# Altium integrated library Infineon_Power_MOSFET.IntLib: 1448 symbols (part 6 of 47)
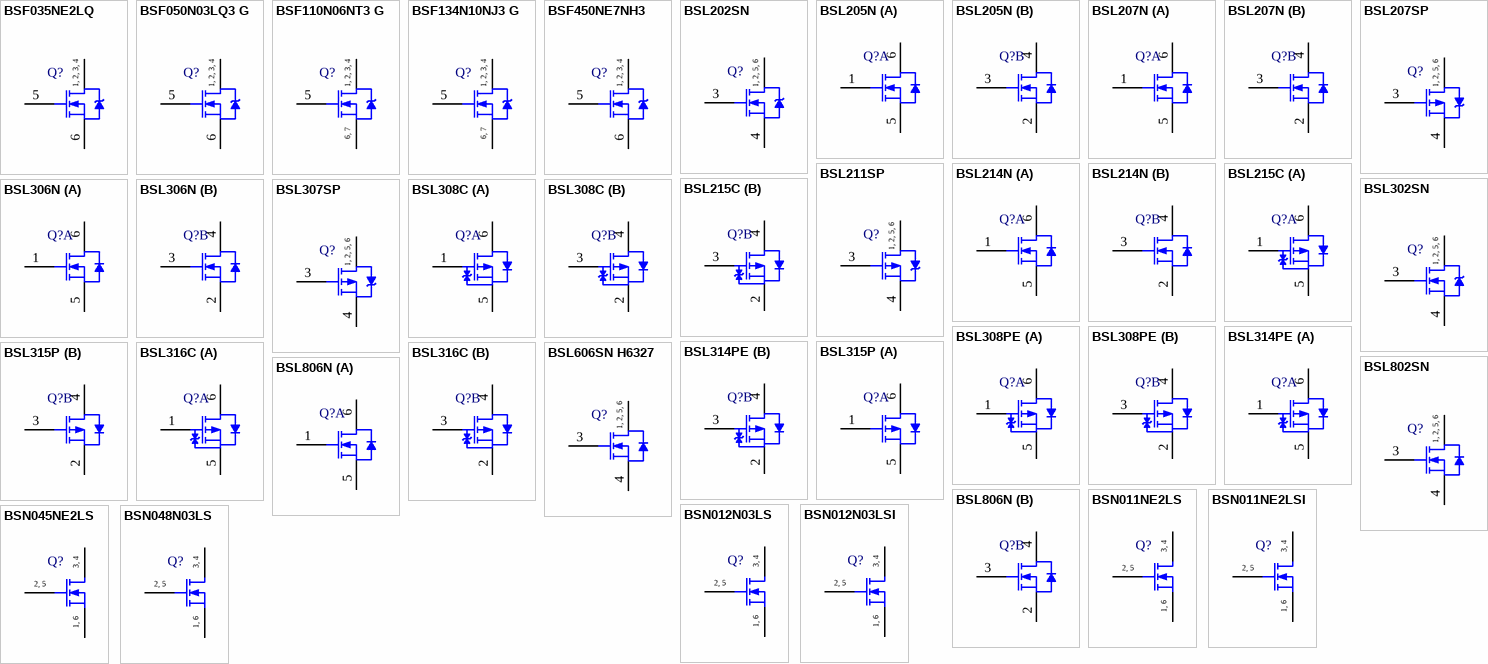
[diagram p42: symbols BSF035NE2LQ to BSN048N03LS]

## BSF450NE7NH3
designator Q?
N-Channel OptiMOS 3 Power-MOSFET, 75 V VDS, 15 A ID, -40 to 150 degC, MG-WDSON-2-1, Reel, Green; Manufacturer: Infineon; PartNumber: BSF450NE7NH3; Green: TRUE; ID (max): 15 A; IDpuls (max): 60 A; Polarity: N; Ptot (max): 18 W; QG: 6 nC; RDS (on) (max): 45 mOhm; Rth: 7 K/W; RthJA (max): 58 K/W; VDS (max): 75 V; VGS(th) (max): 3.5 V; VGS(th) (min): 2.3 V; DatasheetVersion: Rev. 2.0; PackageVersion: Rev. 02, 05/2009; PackageReference: MG-WDSON-2-1; PackageDescription: 6-Pin Metal Green Very Very Thin Profile Dual Small Outline Non-Leaded Package; Halogen-free: TRUE; Packing: Reel; RthJC (max): 7 K/W; Mounting Technology: Surface Mount; ComponentLink1Description: Manufacturer URL; ComponentLink1URL: http://www.infineon.com/; ComponentLink2Description: Datasheet; ComponentLink2URL: http://www.infineon.com/dgdl/BSF450NE7NH3G_rev2.pdf?folderId=db3a304313b8b5a60113cee8763b02d7&fileId=db3a30433a047ba0013a687e2ae403da; ComponentLink3Description: Package Specification; ComponentLink3URL: http://www.infineon.com/dgdl/BSF450NE7NH3G_rev2.0.pdf?folderId=db3a304313b8b5a60113cee8763b02d7&fileId=db3a30433a047ba0013a687e2ae403da
footprint INF-MG-WDSON-2-1_V (WDSON, 6-Leads, Body 4.015x3.825mm)
pins: 1 DRAIN, 2 DRAIN, 3 DRAIN, 4 DRAIN, 5 GATE, 6 SOURCE
text: 1, 2, 3, 4

## BSL202SN
designator Q?
N-Channel OptiMOS 2 Small-Signal-Transistor, 20 V VDS, 7.5 A ID, -55 to 150 degC, PG-TSOP-6, Reel, Green; Manufacturer: Infineon; PartNumber: BSL202SN; Green: TRUE; ID (max): 7.5 A; IDpuls (max): 30 A; Ptot (max): 2 W; QG: 5.8 nC; RDS (on) (max): 36 mOhm; RDS (on) (max) (@4.5V): 22 mOhm; VDS (max): 20 V; VGS(th) (max): 1.2 V; VGS(th) (min): 0.7 V; DatasheetVersion: Rev. 1.08; PackageReference: PG-TSOP-6; PackageDescription: 6-Pin Thin Small Outline Package, 2.9 x 1.6 mm Body, 0.95 mm Pitch; Supplier 1: Mouser; Supplier Part Number 1: N/A; Packing: Reel; RDS (on) (max) (@2.5V): 36 mOhm; Mounting Technology: Surface Mount; ComponentLink1Description: Manufacturer URL; ComponentLink1URL: http://www.infineon.com/; ComponentLink2Description: Datasheet; ComponentLink2URL: http://www.infineon.com/dgdl/BSL202SN_Rev1.08.pdf?folderId=db3a3043156fd573011622e10b5c1f67&fileId=db3a3043156fd573011622e191d41f68; ComponentLink3Description: Package Specification; ComponentLink3URL: http://www.infineon.com/cms/packages/SMD_-_Surface_Mounted_Devices/TSOP/TSOP6.html?__locale=en
footprint INF-PG-TSOP-6_N (SOP, 6-Leads, Body 2.9x1.6mm, Pitch 0.95mm, IPC Medium Density)
footprint INF-PG-TSOP-6_L (SOP, 6-Leads, Body 2.9x1.6mm, Pitch 0.95mm, IPC High Density)
footprint INF-PG-TSOP-6_M (SOP, 6-Leads, Body 2.9x1.6mm, Pitch 0.95mm, IPC Low Density)
pins: 1 DRAIN, 2 DRAIN, 3 GATE, 4 SOURCE, 5 DRAIN, 6 DRAIN
text: 1, 2, 5, 6

## BSL205N
designator Q?
N-Channel OptiMOS 2 Small-Signal-Transistor, 20 V VDS, 2.5 A ID, -55 to 150 degC, PG-TSOP-6, Reel, Green; Manufacturer: Infineon; PartNumber: BSL205N; Green: TRUE; ID (max): 2.5 A; IDpuls (max): 10 A; Ptot (max): 0.5 W; QG: 2.1 nC; RDS (on) (max): 85 mOhm; RDS (on) (max) (@4.5V): 50 mOhm; Rth: 250 K/W; VDS (max): 20 V; VGS(th) (max): 1.2 V; VGS(th) (min): 0.6 V; DatasheetVersion: Rev. 2.2; PackageReference: PG-TSOP-6; PackageDescription: 6-Pin Thin Small Outline Package, 2.9 x 1.6 mm Body, 0.95 mm Pitch; Packing: Reel; RDS (on) (max) (@2.5V): 85 mOhm; RthJA (max): 250 K/W; Mounting Technology: Surface Mount; ComponentLink1Description: Manufacturer URL; ComponentLink1URL: http://www.infineon.com/; ComponentLink2Description: Datasheet; ComponentLink2URL: http://www.infineon.com/dgdl/BSL205N_Rev2.2.pdf?folderId=db3a3043163797a6011637c252b10018&fileId=db3a30431add1d95011aedf84c5d0344; ComponentLink3Description: Package Specification; ComponentLink3URL: http://www.infineon.com/cms/packages/SMD_-_Surface_Mounted_Devices/TSOP/TSOP6.html?__locale=en
footprint INF-PG-TSOP-6_N (SOP, 6-Leads, Body 2.9x1.6mm, Pitch 0.95mm, IPC Medium Density)
footprint INF-PG-TSOP-6_L (SOP, 6-Leads, Body 2.9x1.6mm, Pitch 0.95mm, IPC High Density)
footprint INF-PG-TSOP-6_M (SOP, 6-Leads, Body 2.9x1.6mm, Pitch 0.95mm, IPC Low Density)
part A pins: 1 GATE, 5 SOURCE, 6 DRAIN
part B pins: 2 SOURCE, 3 GATE, 4 DRAIN

## BSL207N
designator Q?
N-Channel OptiMOS 2 Small-Signal-Transistor, 20 V VDS, 2.1 A ID, -55 to 150 degC, PG-TSOP-6, Reel, Green; Manufacturer: Infineon; PartNumber: BSL207N; Green: TRUE; ID (max): 2.1 A; IDpuls (max): 8.4 A; Ptot (max): 0.5 W; QG: 2.1 nC; RDS (on) (max): 110 mOhm; RDS (on) (max) (@4.5V): 70 mOhm; RthJA (max): 250 K/W; VDS (max): 20 V; VGS(th) (max): 1.2 V; VGS(th) (min): 0.7 V; DatasheetVersion: Rev. 2.2; PackageReference: PG-TSOP-6; PackageDescription: 6-Pin Thin Small Outline Package, 2.9 x 1.6 mm Body, 0.95 mm Pitch; Packing: Reel; RDS (on) (max) (@2.5V): 110 mOhm; Mounting Technology: Surface Mount; ComponentLink1Description: Manufacturer URL; ComponentLink1URL: http://www.infineon.com/; ComponentLink2Description: Datasheet; ComponentLink2URL: http://www.infineon.com/dgdl/BSL207N_Rev2.2.pdf?folderId=db3a3043156fd573011622e10b5c1f67&fileId=db3a30431add1d95011aee15c15b0376; ComponentLink3Description: Package Specification; ComponentLink3URL: http://www.infineon.com/cms/packages/SMD_-_Surface_Mounted_Devices/TSOP/TSOP6.html?__locale=en
footprint INF-PG-TSOP-6_N (SOP, 6-Leads, Body 2.9x1.6mm, Pitch 0.95mm, IPC Medium Density)
footprint INF-PG-TSOP-6_L (SOP, 6-Leads, Body 2.9x1.6mm, Pitch 0.95mm, IPC High Density)
footprint INF-PG-TSOP-6_M (SOP, 6-Leads, Body 2.9x1.6mm, Pitch 0.95mm, IPC Low Density)
part A pins: 1 GATE, 5 SOURCE, 6 DRAIN
part B pins: 2 SOURCE, 3 GATE, 4 DRAIN

## BSL207SP
designator Q?
OptiMOS-P Small-Signal-Transistor, -20 V VDS, -6 A ID, P-TSOP6-6, Reel, Green; Manufacturer: Infineon; PartNumber: BSL207SP; Green: TRUE; ID (max): -6 A; Polarity: P; VDS (max): -20 V; DatasheetVersion: Rev. 2.04; PackageReference: P-TSOP6-6; PackageDescription: 6-Pin Thin Small Outline Package, 2.9 x 1.6 mm Body, 0.95 mm Pitch; Supplier 1: Mouser; Supplier Part Number 1: N/A; Supplier 2: Digi-Key; Supplier Part Number 2: BSL207SPINTR-ND; Supplier 3: Digi-Key; Supplier Part Number 3: BSL207SPINCT-ND; Halogen-free: FALSE; Packing: Reel; Mounting Technology: Surface Mount; ComponentLink1Description: Manufacturer URL; ComponentLink1URL: http://www.infineon.com/; ComponentLink2Description: Datasheet; ComponentLink2URL: http://www.infineon.com/dgdl/BSL207SP_Rev24.pdf?folderId=db3a304412b407950112b408e8c90004&fileId=db3a304412b407950112b42af4ec442f; ComponentLink3Description: Package Specification; ComponentLink3URL: http://www.infineon.com/cms/packages/SMD_-_Surface_Mounted_Devices/TSOP/TSOP6.html?__locale=en
footprint INF-P-TSOP6-6_N (SOP, 6-Leads, Body 2.9x1.6mm, Pitch 0.95mm, IPC Medium Density)
footprint INF-P-TSOP6-6_L (SOP, 6-Leads, Body 2.9x1.6mm, Pitch 0.95mm, IPC High Density)
footprint INF-P-TSOP6-6_M (SOP, 6-Leads, Body 2.9x1.6mm, Pitch 0.95mm, IPC Low Density)
pins: 1 DRAIN, 2 DRAIN, 3 GATE, 4 SOURCE, 5 DRAIN, 6 DRAIN
text: 1, 2, 5, 6

## BSL211SP
designator Q?
OptiMOS-P Small-Signal-Transistor, -20 V VDS, -4.7 A ID, P-TSOP6-6, Reel, Green; Manufacturer: Infineon; PartNumber: BSL211SP; Green: TRUE; ID (max): -4.7 A; Polarity: P; VDS (max): -20 V; DatasheetVersion: Rev. 1.3; PackageReference: P-TSOP6-6; PackageDescription: 6-Pin Thin Small Outline Package, 2.9 x 1.6 mm Body, 0.95 mm Pitch; Supplier 1: Mouser; Supplier Part Number 1: 726-BSL211SP; Supplier 2: Digi-Key; Supplier Part Number 2: BSL211SPINTR-ND; Supplier 3: Digi-Key; Supplier Part Number 3: BSL211SPINCT-ND; Halogen-free: FALSE; Packing: Reel; Mounting Technology: Surface Mount; ComponentLink1Description: Manufacturer URL; ComponentLink1URL: http://www.infineon.com/; ComponentLink2Description: Datasheet; ComponentLink2URL: http://www.infineon.com/dgdl/BSL211SP_Rev1.3.pdf?folderId=db3a304412b407950112b408e8c90004&fileId=db3a304412b407950112b42af1e2442b; ComponentLink3Description: Package Specification; ComponentLink3URL: http://www.infineon.com/cms/packages/SMD_-_Surface_Mounted_Devices/TSOP/TSOP6.html?__locale=en
footprint INF-P-TSOP6-6_N (SOP, 6-Leads, Body 2.9x1.6mm, Pitch 0.95mm, IPC Medium Density)
footprint INF-P-TSOP6-6_L (SOP, 6-Leads, Body 2.9x1.6mm, Pitch 0.95mm, IPC High Density)
footprint INF-P-TSOP6-6_M (SOP, 6-Leads, Body 2.9x1.6mm, Pitch 0.95mm, IPC Low Density)
pins: 1 DRAIN, 2 DRAIN, 3 GATE, 4 SOURCE, 5 DRAIN, 6 DRAIN
text: 1, 2, 5, 6

## BSL214N
designator Q?
N-Channel OptiMOS 2 Small-Signal-Transistor, 20 V VDS, 1.5 A ID, -55 to 150 degC, PG-TSOP-6, Reel, Green; Manufacturer: Infineon; PartNumber: BSL214N; Green: TRUE; ID (max): 1.5 A; IDpuls (max): 6 A; Ptot (max): 0.5 W; QG: 0.8 nC; RDS (on) (max): 250 mOhm; RDS (on) (max) (@4.5V): 140 mOhm; RthJA (max): 250 K/W; VDS (max): 20 V; VGS(th) (max): 1.2 V; VGS(th) (min): 0.7 V; DatasheetVersion: Rev. 2.2; PackageReference: PG-TSOP-6; PackageDescription: 6-Pin Thin Small Outline Package, 2.9 x 1.6 mm Body, 0.95 mm Pitch; Packing: Reel; RDS (on) (max) (@2.5V): 250 mOhm; Mounting Technology: Surface Mount; ComponentLink1Description: Manufacturer URL; ComponentLink1URL: http://www.infineon.com/; ComponentLink2Description: Datasheet; ComponentLink2URL: http://www.infineon.com/dgdl/BSL214N_Rev2.2.pdf?folderId=db3a3043156fd573011622e10b5c1f67&fileId=db3a30431add1d95011afc5baa4504c2; ComponentLink3Description: Package Specification; ComponentLink3URL: http://www.infineon.com/cms/packages/SMD_-_Surface_Mounted_Devices/TSOP/TSOP6.html?__locale=en
footprint INF-PG-TSOP-6_N (SOP, 6-Leads, Body 2.9x1.6mm, Pitch 0.95mm, IPC Medium Density)
footprint INF-PG-TSOP-6_L (SOP, 6-Leads, Body 2.9x1.6mm, Pitch 0.95mm, IPC High Density)
footprint INF-PG-TSOP-6_M (SOP, 6-Leads, Body 2.9x1.6mm, Pitch 0.95mm, IPC Low Density)
part A pins: 1 GATE, 5 SOURCE, 6 DRAIN
part B pins: 2 SOURCE, 3 GATE, 4 DRAIN

## BSL215C
designator Q?
OptiMOS 2 + OptiMOS P2 Small-Signal-Transistor, 20 V, -20V VDS, 1.5 A, -1.5 A ID, -55 to 150 degC, PG-TSOP-6, Reel, Green; Manufacturer: Infineon; PartNumber: BSL215C; Green: TRUE; ID (max): 1.5 A -1.5 A; IDpuls (max): 6 A -6 A; Mode: Enhancement; Ptot< (max): 0.5 W 0.5 W; QG: 0.73 nC -3 nC; RDS (on) (max) (@2.5V): 250 mOhm 280 mOhm; RDS (on) (max) (@4.5V): 140 mOhm 150 mOhm; VDS (max): 20 V -20V; VGS(th) (max): 1.2 V -0.6 V; VGS(th) (min): 0.7 V -1.2 V; DatasheetVersion: Rev. 2.1; PackageReference: PG-TSOP-6; PackageDescription: 6-Pin Thin Small Outline Package, 2.9 x 1.6 mm Body, 0.95 mm Pitch; Packing: Reel; RDS (on)< (max): 250 mOhm 280 mOhm; Technology: OptiMOS-2; Mounting Technology: Surface Mount; ComponentLink1Description: Manufacturer URL; ComponentLink1URL: http://www.infineon.com/; ComponentLink2Description: Datasheet; ComponentLink2URL: http://www.infineon.com/dgdl/BSL215C_rev2.1.pdf?folderId=db3a30431add1d95011aed428f2d0285&fileId=db3a30431add1d95011aed4394210289; ComponentLink3Description: Package Specification; ComponentLink3URL: http://www.infineon.com/cms/packages/SMD_-_Surface_Mounted_Devices/TSOP/TSOP6.html?__locale=en
footprint INF-PG-TSOP-6_N (SOP, 6-Leads, Body 2.9x1.6mm, Pitch 0.95mm, IPC Medium Density)
footprint INF-PG-TSOP-6_L (SOP, 6-Leads, Body 2.9x1.6mm, Pitch 0.95mm, IPC High Density)
footprint INF-PG-TSOP-6_M (SOP, 6-Leads, Body 2.9x1.6mm, Pitch 0.95mm, IPC Low Density)
part A pins: 1 GATE, 5 SOURCE, 6 DRAIN
part B pins: 2 SOURCE, 3 GATE, 4 DRAIN

## BSL302SN
designator Q?
N-Channel OptiMOS 2 Small-Signal-Transistor, 30 V VDS, 7.1 A ID, -55 to 150 degC, PG-TSOP-6, Reel, Green; Manufacturer: Infineon; PartNumber: BSL302SN; Green: TRUE; ID (max): 7.1 A; IDpuls (max): 28 A; Ptot (max): 2 W; QG: 4.4 nC; RDS (on) (max): 25 mOhm; RDS (on) (max) (@4.5V): 38 mOhm; VDS (max): 30 V; VGS(th) (max): 2 V; VGS(th) (min): 1.2 V; DatasheetVersion: Rev. 1.07; PackageReference: PG-TSOP-6; PackageDescription: 6-Pin Thin Small Outline Package, 2.9 x 1.6 mm Body, 0.95 mm Pitch; Supplier 1: Mouser; Supplier Part Number 1: N/A; Packing: Reel; Mounting Technology: Surface Mount; ComponentLink1Description: Manufacturer URL; ComponentLink1URL: http://www.infineon.com/; ComponentLink2Description: Datasheet; ComponentLink2URL: http://www.infineon.com/dgdl/BSL302SN_Rev1.07.pdf?folderId=db3a3043156fd573011622e10b5c1f67&fileId=db3a3043156fd573011622e9b2061f88; ComponentLink3Description: Package Specification; ComponentLink3URL: http://www.infineon.com/cms/packages/SMD_-_Surface_Mounted_Devices/TSOP/TSOP6.html?__locale=en
footprint INF-PG-TSOP-6_N (SOP, 6-Leads, Body 2.9x1.6mm, Pitch 0.95mm, IPC Medium Density)
footprint INF-PG-TSOP-6_L (SOP, 6-Leads, Body 2.9x1.6mm, Pitch 0.95mm, IPC High Density)
footprint INF-PG-TSOP-6_M (SOP, 6-Leads, Body 2.9x1.6mm, Pitch 0.95mm, IPC Low Density)
pins: 1 DRAIN, 2 DRAIN, 3 GATE, 4 SOURCE, 5 DRAIN, 6 DRAIN
text: 1, 2, 5, 6

## BSL306N
designator Q?
N-Channel OptiMOS 2 Small-Signal-Transistor, 30 V VDS, 2.3 A ID, -55 to 150 degC, PG-TSOP-6, Reel, Green; Manufacturer: Infineon; PartNumber: BSL306N; Green: TRUE; ID (max): 2.3 A; IDpuls (max): 9 A; Ptot (max): 0.5 W; QG: 1.6 nC; RDS (on) (max): 57 mOhm; RDS (on) (max) (@4.5V): 93 mOhm; RthJA (max): 250 K/W; VDS (max): 30 V; VGS(th) (max): 2 V; VGS(th) (min): 1.2 V; DatasheetVersion: Rev. 2.3; PackageReference: PG-TSOP-6; PackageDescription: 6-Pin Thin Small Outline Package, 2.9 x 1.6 mm Body, 0.95 mm Pitch; Packing: Reel; Mounting Technology: Surface Mount; ComponentLink1Description: Manufacturer URL; ComponentLink1URL: http://www.infineon.com/; ComponentLink2Description: Datasheet; ComponentLink2URL: http://www.infineon.com/dgdl/BSL306N_Rev2.3.pdf?folderId=db3a3043156fd573011622e10b5c1f67&fileId=db3a30431add1d95011afc80323d04f0; ComponentLink3Description: Package Specification; ComponentLink3URL: http://www.infineon.com/cms/packages/SMD_-_Surface_Mounted_Devices/TSOP/TSOP6.html?__locale=en
footprint INF-PG-TSOP-6_N (SOP, 6-Leads, Body 2.9x1.6mm, Pitch 0.95mm, IPC Medium Density)
footprint INF-PG-TSOP-6_L (SOP, 6-Leads, Body 2.9x1.6mm, Pitch 0.95mm, IPC High Density)
footprint INF-PG-TSOP-6_M (SOP, 6-Leads, Body 2.9x1.6mm, Pitch 0.95mm, IPC Low Density)
part A pins: 1 GATE, 5 SOURCE, 6 DRAIN
part B pins: 2 SOURCE, 3 GATE, 4 DRAIN

## BSL307SP
designator Q?
P-Channel OptiMOS P Small-Signal-Transistor, -30 V VDS, -5.5 A ID, -55 to 150 degC, PG-TSOP-6, Reel, Green; Manufacturer: Infineon; PartNumber: BSL307SP; Green: TRUE; ID (max): -5.5 A; IDpuls (max): -22 A; Pto t (max): 2 W; QG: -23.4 nC; RDS (on) (max): 43 mOhm; RDS (on) (max) (@4.5V): 74 mOhm; Rth: 230 K/W; VDS (max): -30 V; VGS(th) (max): -2 V; VGS(th) (min): -1 V; DatasheetVersion: Rev. 1.5; PackageReference: PG-TSOP-6; PackageDescription: 6-Pin Thin Small Outline Package, 2.9 x 1.6 mm Body, 0.95 mm Pitch; Supplier 1: Mouser; Supplier Part Number 1: N/A; Supplier 2: Digi-Key; Supplier Part Number 2: BSL307SPINTR-ND; Packing: Reel; Polarity: P; Mounting Technology: Surface Mount; ComponentLink1Description: Manufacturer URL; ComponentLink1URL: http://www.infineon.com/; ComponentLink2Description: Datasheet; ComponentLink2URL: http://www.infineon.com/dgdl/BSL307SP_Rev+1.5.pdf?folderId=db3a304412b407950112b408e8c90004&fileId=db3a304412b407950112b42af8304433; ComponentLink3Description: Package Specification; ComponentLink3URL: http://www.infineon.com/cms/packages/SMD_-_Surface_Mounted_Devices/TSOP/TSOP6.html?__locale=en
footprint INF-PG-TSOP-6_N (SOP, 6-Leads, Body 2.9x1.6mm, Pitch 0.95mm, IPC Medium Density)
footprint INF-PG-TSOP-6_L (SOP, 6-Leads, Body 2.9x1.6mm, Pitch 0.95mm, IPC High Density)
footprint INF-PG-TSOP-6_M (SOP, 6-Leads, Body 2.9x1.6mm, Pitch 0.95mm, IPC Low Density)
pins: 1 DRAIN, 2 DRAIN, 3 GATE, 4 SOURCE, 5 DRAIN, 6 DRAIN
text: 1, 2, 5, 6

## BSL308C
designator Q?
OptiMOS 3 + OptiMOS 2 Small-Signal-Transistor, -30 V VDS, 2.3 A, -2.0 A ID, -55 to 150 degC, PG-TSOP-6, Reel, Green; Manufacturer: Infineon; PartNumber: BSL308C; Green: TRUE; ID (max): 2.3 A -2.0 A; IDpuls (max): 9 A -8 A; Mode: Enhancement; Ptot< (max): 0.5 W 0.5 W; QG: 1.5 nC -5 nC; RDS (on) (max) (@4.5V): 93 mOhm 130 mOhm; RDS (on)< (max): 57 mOhm 80 mOhm; VDS (max): 30 V -30 V; VGS(th) (max): 2 V -1 V; VGS(th) (min): 1.2 V -2 V; DatasheetVersion: Rev. 2.0; PackageReference: PG-TSOP-6; PackageDescription: 6-Pin Thin Small Outline Package, 2.9 x 1.6 mm Body, 0.95 mm Pitch; Packing: Reel; Technology: OptiMOS-2; Mounting Technology: Surface Mount; ComponentLink1Description: Manufacturer URL; ComponentLink1URL: http://www.infineon.com/; ComponentLink2Description: Datasheet; ComponentLink2URL: http://www.infineon.com/dgdl/BSL308C_Rev+2+0.pdf?folderId=db3a30431add1d95011aed428f2d0285&fileId=db3a30431ff98815012060ff862e6193; ComponentLink3Description: Package Specification; ComponentLink3URL: http://www.infineon.com/cms/packages/SMD_-_Surface_Mounted_Devices/TSOP/TSOP6.html?__locale=en
footprint INF-PG-TSOP-6_N (SOP, 6-Leads, Body 2.9x1.6mm, Pitch 0.95mm, IPC Medium Density)
footprint INF-PG-TSOP-6_L (SOP, 6-Leads, Body 2.9x1.6mm, Pitch 0.95mm, IPC High Density)
footprint INF-PG-TSOP-6_M (SOP, 6-Leads, Body 2.9x1.6mm, Pitch 0.95mm, IPC Low Density)
part A pins: 1 GATE, 5 SOURCE, 6 DRAIN
part B pins: 2 SOURCE, 3 GATE, 4 DRAIN

## BSL308PE
designator Q?
P-Channel OptiMOS P3 Small-Signal-Transistor, -30 V VDS, -2 A ID, -55 to 150 degC, PG-TSOP-6, Reel, Green; Manufacturer: Infineon; PartNumber: BSL308PE; Green: TRUE; ID (max): -2 A; IDpuls (max): -8 A; Pto t (max): 0.5 W; QG: -5 nC; RDS (on) (max): 80 mOhm; RDS (on) (max) (@4.5V): 130 mOhm; Rth: 250 K/W; VDS (max): -30 V; VGS(th) (max): -1 V; VGS(th) (min): -2 V; DatasheetVersion: Rev. 2.02; PackageReference: PG-TSOP-6; PackageDescription: 6-Pin Thin Small Outline Package, 2.9 x 1.6 mm Body, 0.95 mm Pitch; Packing: Reel; Mounting Technology: Surface Mount; ComponentLink1Description: Manufacturer URL; ComponentLink1URL: http://www.infineon.com/; ComponentLink2Description: Datasheet; ComponentLink2URL: http://www.infineon.com/dgdl/BSL308PE_Rev22.pdf?folderId=db3a304314dca38901154a72e3951a65&fileId=db3a30431d8a6b3c011d8ff3592c03d0; ComponentLink3Description: Package Specification; ComponentLink3URL: http://www.infineon.com/cms/packages/SMD_-_Surface_Mounted_Devices/TSOP/TSOP6.html?__locale=en
footprint INF-PG-TSOP-6_N (SOP, 6-Leads, Body 2.9x1.6mm, Pitch 0.95mm, IPC Medium Density)
footprint INF-PG-TSOP-6_L (SOP, 6-Leads, Body 2.9x1.6mm, Pitch 0.95mm, IPC High Density)
footprint INF-PG-TSOP-6_M (SOP, 6-Leads, Body 2.9x1.6mm, Pitch 0.95mm, IPC Low Density)
part A pins: 1 GATE, 5 SOURCE, 6 DRAIN
part B pins: 2 SOURCE, 3 GATE, 4 DRAIN

## BSL314PE
designator Q?
P-Channel OptiMOS P3 Small-Signal-Transistor, -30 V VDS, -1.5 A ID, -55 to 150 degC, PG-TSOP-6, Reel, Green; Manufacturer: Infineon; PartNumber: BSL314PE; Green: TRUE; ID (max): -1.5 A; IDpuls (max): -6.1 A; Pto t (max): 0.5 W; QG: -2.9 nC; RDS (on) (max): 140 mOhm; RDS (on) (max) (@4.5V): 230 mOhm; Rth: 250 K/W; VDS (max): -30 V; VGS(th) (max): -2 V; VGS(th) (min): -1 V; DatasheetVersion: Rev 2.2; PackageReference: PG-TSOP-6; PackageDescription: 6-Pin Thin Small Outline Package, 2.9 x 1.6 mm Body, 0.95 mm Pitch; Packing: Reel; Mounting Technology: Surface Mount; ComponentLink1Description: Manufacturer URL; ComponentLink1URL: http://www.infineon.com/; ComponentLink2Description: Datasheet; ComponentLink2URL: http://www.infineon.com/dgdl/BSL314PE_rev2+2.pdf?folderId=db3a304314dca38901154a72e3951a65&fileId=db3a30431ff98815012066194be96c60; ComponentLink3Description: Package Specification; ComponentLink3URL: http://www.infineon.com/cms/packages/SMD_-_Surface_Mounted_Devices/TSOP/TSOP6.html?__locale=en
footprint INF-PG-TSOP-6_N (SOP, 6-Leads, Body 2.9x1.6mm, Pitch 0.95mm, IPC Medium Density)
footprint INF-PG-TSOP-6_L (SOP, 6-Leads, Body 2.9x1.6mm, Pitch 0.95mm, IPC High Density)
footprint INF-PG-TSOP-6_M (SOP, 6-Leads, Body 2.9x1.6mm, Pitch 0.95mm, IPC Low Density)
part A pins: 1 GATE, 5 SOURCE, 6 DRAIN
part B pins: 2 SOURCE, 3 GATE, 4 DRAIN

## BSL315P
designator Q?
OptiMOS-P2 Small-Signal-Transistor, -30 V VDS, -1.5 A ID, PG-TSOP-6, Reel, Green; Manufacturer: Infineon; PartNumber: BSL315P; Green: TRUE; ID (max): -1.5 A; RDS (on) (max): 150 mOhm; VDS (max): -30 V; DatasheetVersion: Rev. 2.2; PackageReference: PG-TSOP-6; PackageDescription: 6-Pin Thin Small Outline Package, 2.9 x 1.6 mm Body, 0.95 mm Pitch; Halogen-free: FALSE; Packing: Reel; Mounting Technology: Surface Mount; ComponentLink1Description: Manufacturer URL; ComponentLink1URL: http://www.infineon.com/; ComponentLink2Description: Datasheet; ComponentLink2URL: http://www.infineon.com/dgdl/BSL315P_Rev2.2.pdf?folderId=db3a304314dca38901154a7313d21a66&fileId=db3a30431add1d95011aed26517e022d; ComponentLink3Description: Package Specification; ComponentLink3URL: http://www.infineon.com/cms/packages/SMD_-_Surface_Mounted_Devices/TSOP/TSOP6.html?__locale=en
footprint INF-PG-TSOP-6_N (SOP, 6-Leads, Body 2.9x1.6mm, Pitch 0.95mm, IPC Medium Density)
footprint INF-PG-TSOP-6_L (SOP, 6-Leads, Body 2.9x1.6mm, Pitch 0.95mm, IPC High Density)
footprint INF-PG-TSOP-6_M (SOP, 6-Leads, Body 2.9x1.6mm, Pitch 0.95mm, IPC Low Density)
part A pins: 1 G, 5 S, 6 D
part B pins: 2 S, 3 G, 4 D

## BSL316C
designator Q?
OptiMOS 2 + OptiMOS P2 Small-Signal-Transistor, 30 V, -30 V VDS, 1.4 A, -1.5 A ID, -55 to 150 degC, PG-TSOP-6, Reel, Green; Manufacturer: Infineon; PartNumber: BSL316C; Green: TRUE; ID (max): 1.4 A -1.5 A; IDpuls (max): 5.6 A -6 A; Mode: Enhancement; Ptot< (max): 0.5 W 0.5 W; QG: 0.6 nC -2.4 nC; RDS (on) (max) (@4.5V): 280 mOhm 270 mOhm; RDS (on)< (max): 160 mOhm 150 mOhm; VDS (max): 30 V -30 V; VGS(th) (max): 2 V -1 V; VGS(th) (min): 1.2 V -2 V; DatasheetVersion: Rev. 2.1; PackageReference: PG-TSOP-6; PackageDescription: 6-Pin Thin Small Outline Package, 2.9 x 1.6 mm Body, 0.95 mm Pitch; Packing: Reel; Technology: OptiMOS-2; Mounting Technology: Surface Mount; ComponentLink1Description: Manufacturer URL; ComponentLink1URL: http://www.infineon.com/; ComponentLink2Description: Datasheet; ComponentLink2URL: http://www.infineon.com/dgdl/BSL316C_rev2.1.pdf?folderId=db3a30431add1d95011aed428f2d0285&fileId=db3a30431add1d95011aed6aee7702ee; ComponentLink3Description: Package Specification; ComponentLink3URL: http://www.infineon.com/cms/packages/SMD_-_Surface_Mounted_Devices/TSOP/TSOP6.html?__locale=en
footprint INF-PG-TSOP-6_N (SOP, 6-Leads, Body 2.9x1.6mm, Pitch 0.95mm, IPC Medium Density)
footprint INF-PG-TSOP-6_L (SOP, 6-Leads, Body 2.9x1.6mm, Pitch 0.95mm, IPC High Density)
footprint INF-PG-TSOP-6_M (SOP, 6-Leads, Body 2.9x1.6mm, Pitch 0.95mm, IPC Low Density)
part A pins: 1 GATE, 5 SOURCE, 6 DRAIN
part B pins: 2 SOURCE, 3 GATE, 4 DRAIN

## BSL606SN H6327
designator Q?
N-Channel OptiMOS 3 Small-Signal-Transistor, 60 V VDS, 4.5 A ID, -55 to 150 degC, PG-TSOP-6, Reel, Green; Manufacturer: Infineon; PartNumber: BSL606SN H6327; Green: TRUE; ID (max): 4.5 A; IDpuls (max): 18.1 A; Mode: Enhancement; Polarity: N; Ptot (max): 2 W; QG: 4.1 nC; RDS (on) (max): 60 mOhm; RDS (on) (max) (@4.5V): 95 mOhm; Rth: 62.5 K/W; VDS (max): 60 V; VGS(th) (max): 2.3 V; VGS(th) (min): 1.3 V; DatasheetVersion: Rev. 2.0; PackageReference: PG-TSOP-6; PackageDescription: 6-Pin Thin Small Outline Package, 2.9 x 1.6 mm Body, 0.95 mm Pitch; Supplier 1: Mouser; Supplier Part Number 1: 726-BSL606SNH6327; Halogen-free: TRUE; Packing: Reel; RthJA (max): 62.5 K/W; Mounting Technology: Surface Mount; ComponentLink1Description: Manufacturer URL; ComponentLink1URL: http://www.infineon.com/; ComponentLink2Description: Datasheet; ComponentLink2URL: http://www.infineon.com/dgdl/BSL606SN_2.0.pdf?folderId=db3a3043156fd573011622e10b5c1f67&fileId=db3a30433c6c52e2013c6ca13340015f; ComponentLink3Description: Package Specification; ComponentLink3URL: http://www.infineon.com/cms/packages/SMD_-_Surface_Mounted_Devices/TSOP/TSOP6.html?__locale=en
footprint INF-PG-TSOP-6_N (SOP, 6-Leads, Body 2.9x1.6mm, Pitch 0.95mm, IPC Medium Density)
footprint INF-PG-TSOP-6_L (SOP, 6-Leads, Body 2.9x1.6mm, Pitch 0.95mm, IPC High Density)
footprint INF-PG-TSOP-6_M (SOP, 6-Leads, Body 2.9x1.6mm, Pitch 0.95mm, IPC Low Density)
pins: 1 DRAIN, 2 DRAIN, 3 GATE, 4 SOURCE, 5 DRAIN, 6 DRAIN
text: 1, 2, 5, 6

## BSL802SN
designator Q?
N-Channel OptiMOS 2 Small-Signal-Transistor, 20 V VDS, 7.5 A ID, -55 to 150 degC, PG-TSOP-6, Reel, Green; Manufacturer: Infineon; PartNumber: BSL802SN; Green: TRUE; ID (max): 7.5 A; IDpuls (max): 30 A; Ptot (max): 2 W; QG: 4.7 nC; RDS (on) (max): 22 mOhm; RDS (on) (max) (@1.8V): 31 mOhm; RthJA (max): 230 K/W; VDS (max): 20 V; VGS(th) (max): 0.75 V; VGS(th) (min): 0.3 V; DatasheetVersion: Rev. 2.2; PackageReference: PG-TSOP-6; PackageDescription: 6-Pin Thin Small Outline Package, 2.9 x 1.6 mm Body, 0.95 mm Pitch; Packing: Reel; RDS (on) (max) (@2.5V): 22 mOhm; Mounting Technology: Surface Mount; ComponentLink1Description: Manufacturer URL; ComponentLink1URL: http://www.infineon.com/; ComponentLink2Description: Datasheet; ComponentLink2URL: http://www.infineon.com/dgdl/BSL802SN_Rev2.2.pdf?folderId=db3a3043156fd573011622e10b5c1f67&fileId=db3a30431b0626df011b129ef9177bd1; ComponentLink3Description: Package Specification; ComponentLink3URL: http://www.infineon.com/cms/packages/SMD_-_Surface_Mounted_Devices/TSOP/TSOP6.html?__locale=en
footprint INF-PG-TSOP-6_N (SOP, 6-Leads, Body 2.9x1.6mm, Pitch 0.95mm, IPC Medium Density)
footprint INF-PG-TSOP-6_L (SOP, 6-Leads, Body 2.9x1.6mm, Pitch 0.95mm, IPC High Density)
footprint INF-PG-TSOP-6_M (SOP, 6-Leads, Body 2.9x1.6mm, Pitch 0.95mm, IPC Low Density)
pins: 1 DRAIN, 2 DRAIN, 3 GATE, 4 SOURCE, 5 DRAIN, 6 DRAIN
text: 1, 2, 5, 6

## BSL806N
designator Q?
N-Channel OptiMOS 2 Small-Signal-Transistor, 20 V VDS, 2.3 A ID, -55 to 150 degC, PG-TSOP-6, Reel, Green; Manufacturer: Infineon; PartNumber: BSL806N; Green: TRUE; ID (max): 2.3 A; IDpuls (max): 9.3 A; Ptot (max): 0.5 W; QG: 1.7 nC; RDS (on) (max): 57 mOhm; RDS (on) (max) (@1.8V): 82 mOhm; RthJA (max): 250 K/W; VDS (max): 20 V; VGS(th) (max): 0.75 V; VGS(th) (min): 0.3 V; PackageReference: PG-TSOP-6; PackageDescription: 6-Pin Thin Small Outline Package, 2.9 x 1.6 mm Body, 0.95 mm Pitch; Packing: Reel; RDS (on) (max) (@2.5V): 57 mOhm; Mounting Technology: Surface Mount; ComponentLink1Description: Manufacturer URL; ComponentLink1URL: http://www.infineon.com/; ComponentLink2Description: Datasheet; ComponentLink2URL: http://www.infineon.com/dgdl/BSL806N_Rev2.2.pdf?folderId=db3a3043156fd573011622e10b5c1f67&fileId=db3a30431b0626df011b128dcbe37bb1; ComponentLink3Description: Package Specification; ComponentLink3URL: http://www.infineon.com/cms/packages/SMD_-_Surface_Mounted_Devices/TSOP/TSOP6.html?__locale=en
footprint INF-PG-TSOP-6_N (SOP, 6-Leads, Body 2.9x1.6mm, Pitch 0.95mm, IPC Medium Density)
footprint INF-PG-TSOP-6_L (SOP, 6-Leads, Body 2.9x1.6mm, Pitch 0.95mm, IPC High Density)
footprint INF-PG-TSOP-6_M (SOP, 6-Leads, Body 2.9x1.6mm, Pitch 0.95mm, IPC Low Density)
part A pins: 1 GATE, 5 SOURCE, 6 DRAIN
part B pins: 2 SOURCE, 3 GATE, 4 DRAIN

## BSN011NE2LS
designator Q?
N-Channel OptiMOS Power-MOSFET, 25 V VDS, 50 A ID, -55 to 150 degC, LG-USON-6-1, Reel, Green; Manufacturer: Infineon; PartNumber: BSN011NE2LS; Green: TRUE; ID (max): 50 A; IDpuls (max): 200 A; Polarity: N; Ptot (max): 78 W; QG: 54 nC; RDS (on) (max): 1.1 mOhm; RDS (on) (max) (@4.5V): 1.5 mOhm; Rth: 1.6 K/W; RthJA (max): 50 K/W; VDS (max): 25 V; VGS(th) (max): 2 V; VGS(th) (min): 1.2 V; DatasheetVersion: Rev. 1.0; PackageVersion: Mar-13; PackageReference: LG-USON-6-1; PackageDescription: 6-Pin Plastic (Green) Ultra thin Small Outline Non-leaded Package, 3 x 3.4 mm Body; Supplier 1: Mouser; Supplier Part Number 1: N/A; Halogen-free: TRUE; Packing: Reel; RthJC (max): 1.6 K/W; Technology: OPTIMOS; Mounting Technology: Surface Mount; ComponentLink1Description: Manufacturer URL; ComponentLink1URL: http://www.infineon.com/; ComponentLink2Description: Datasheet; ComponentLink2URL: http://www.infineon.com/dgdl/BSN011NE2LS_rev1.pdf?folderId=db3a304313b8b5a60113cee8763b02d7&fileId=db3a30433d68e984013d7cbfeef05815; ComponentLink3Description: Package Specification; ComponentLink3URL: http://www.infineon.com/dgdl/BSN011NE2LSI_rev1.0.pdf?folderId=db3a304313b8b5a60113cee8763b02d7&fileId=db3a30433d68e984013d7ccf22ee58e4
footprint INF-LG-USON-6-1_V (USON, 6-Leads, Body 3.4x3mm)
pins: 1 SOURCE, 2 GATE, 3 DRAIN, 4 DRAIN, 5 GATE, 6 SOURCE
text: 3, 4; 2, 5; 1, 6

## BSN011NE2LSI
designator Q?
N-Channel OptiMOS Power-MOSFET, 25 V VDS, 50 A ID, -55 to 150 degC, LG-USON-6-1, Reel, Green; Manufacturer: Infineon; PartNumber: BSN011NE2LSI; Green: TRUE; ID (max): 50 A; IDpuls (max): 200 A; Polarity: N; Ptot (max): 78 W; QG: 49 nC; RDS (on) (max): 1.1 mOhm; RDS (on) (max) (@4.5V): 1.5 mOhm; Rth: 1.6 K/W; RthJA (max): 50 K/W; VDS (max): 25 V; VGS(th) (max): 2 V; VGS(th) (min): 1.2 V; DatasheetVersion: Rev. 1.0; PackageVersion: Mar-13; PackageReference: LG-USON-6-1; PackageDescription: 6-Pin Plastic (Green) Ultra thin Small Outline Non-leaded Package, 3 x 3.4 mm Body; Supplier 1: Mouser; Supplier Part Number 1: N/A; Halogen-free: TRUE; Packing: Reel; RthJC (max): 1.6 K/W; Technology: OPTIMOS; Mounting Technology: Surface Mount; ComponentLink1Description: Manufacturer URL; ComponentLink1URL: http://www.infineon.com/; ComponentLink2Description: Datasheet; ComponentLink2URL: http://www.infineon.com/dgdl/BSN011NE2LSI_rev1.pdf?folderId=db3a304313b8b5a60113cee8763b02d7&fileId=db3a30433d68e984013d7ccf22ee58e4; ComponentLink3Description: Package Specification; ComponentLink3URL: http://www.infineon.com/dgdl/BSN011NE2LSI_rev1.0.pdf?folderId=db3a304313b8b5a60113cee8763b02d7&fileId=db3a30433d68e984013d7ccf22ee58e4
footprint INF-LG-USON-6-1_V (USON, 6-Leads, Body 3.4x3mm)
pins: 1 SOURCE, 2 GATE, 3 DRAIN, 4 DRAIN, 5 GATE, 6 SOURCE
text: 3, 4; 2, 5; 1, 6

## BSN012N03LS
designator Q?
N-Channel OptiMOS Power-MOSFET, 30 V VDS, 50 A ID, -55 to 150 degC, LG-USON-6-1, Reel, Green; Manufacturer: Infineon; PartNumber: BSN012N03LS; Green: TRUE; ID (max): 50 A; IDpuls (max): 200 A; Polarity: N; Ptot (max): 78 W; QG: 61 nC; RDS (on) (max): 1.2 mOhm; RDS (on) (max) (@4.5V): 1.6 mOhm; Rth: 1.6 K/W; RthJA (max): 50 K/W; VDS (max): 30 V; VGS(th) (max): 2 V; VGS(th) (min): 1.2 V; DatasheetVersion: Rev. 1.0; PackageVersion: Mar-13; PackageReference: LG-USON-6-1; PackageDescription: 6-Pin Plastic (Green) Ultra thin Small Outline Non-leaded Package, 3 x 3.4 mm Body; Supplier 1: Mouser; Supplier Part Number 1: N/A; Halogen-free: TRUE; Packing: Reel; RthJC (max): 1.6 K/W; Technology: OPTIMOS; Mounting Technology: Surface Mount; ComponentLink1Description: Manufacturer URL; ComponentLink1URL: http://www.infineon.com/; ComponentLink2Description: Datasheet; ComponentLink2URL: http://www.infineon.com/dgdl/BSN012N03LS_rev1.pdf?folderId=db3a304313b8b5a60113cee8763b02d7&fileId=db3a30433d68e984013d7cde510c594c; ComponentLink3Description: Package Specification; ComponentLink3URL: http://www.infineon.com/dgdl/BSN011NE2LSI_rev1.0.pdf?folderId=db3a304313b8b5a60113cee8763b02d7&fileId=db3a30433d68e984013d7ccf22ee58e4
footprint INF-LG-USON-6-1_V (USON, 6-Leads, Body 3.4x3mm)
pins: 1 SOURCE, 2 GATE, 3 DRAIN, 4 DRAIN, 5 GATE, 6 SOURCE
text: 3, 4; 2, 5; 1, 6

## BSN012N03LSI
designator Q?
N-Channel OptiMOS Power-MOSFET, 30 V VDS, 50 A ID, -55 to 150 degC, LG-USON-6-1, Reel, Green; Manufacturer: Infineon; PartNumber: BSN012N03LSI; Green: TRUE; ID (max): 50 A; IDpuls (max): 200 A; Polarity: N; Ptot (max): 78 W; QG: 56 nC; RDS (on) (max): 1.2 mOhm; RDS (on) (max) (@4.5V): 1.6 mOhm; Rth: 1.6 K/W; RthJA (max): 50 K/W; VDS (max): 30 V; VGS(th) (max): 2 V; VGS(th) (min): 1.2 V; DatasheetVersion: Rev. 1.0; PackageVersion: Mar-13; PackageReference: LG-USON-6-1; PackageDescription: 6-Pin Plastic (Green) Ultra thin Small Outline Non-leaded Package, 3 x 3.4 mm Body; Supplier 1: Mouser; Supplier Part Number 1: N/A; Halogen-free: TRUE; Packing: Reel; RthJC (max): 1.6 K/W; Technology: OPTIMOS; Mounting Technology: Surface Mount; ComponentLink1Description: Manufacturer URL; ComponentLink1URL: http://www.infineon.com/; ComponentLink2Description: Datasheet; ComponentLink2URL: http://www.infineon.com/dgdl/BSN012N03LSI_rev1.pdf?folderId=db3a304313b8b5a60113cee8763b02d7&fileId=db3a30433d68e984013d7cea5f8559f4; ComponentLink3Description: Package Specification; ComponentLink3URL: http://www.infineon.com/dgdl/BSN011NE2LSI_rev1.0.pdf?folderId=db3a304313b8b5a60113cee8763b02d7&fileId=db3a30433d68e984013d7ccf22ee58e4
footprint INF-LG-USON-6-1_V (USON, 6-Leads, Body 3.4x3mm)
pins: 1 SOURCE, 2 GATE, 3 DRAIN, 4 DRAIN, 5 GATE, 6 SOURCE
text: 3, 4; 2, 5; 1, 6

## BSN045NE2LS
designator Q?
N-Channel OptiMOS Power-MOSFET, 25 V VDS, 50 A ID, -55 to 150 degC, LG-USON-6-1, Reel, Green; Manufacturer: Infineon; PartNumber: BSN045NE2LS; Green: TRUE; ID (max): 50 A; IDpuls (max): 200 A; Polarity: N; Ptot (max): 39 W; QG: 11 nC; RDS (on) (max): 4.5 mOhm; RDS (on) (max) (@4.5V): 6.5 mOhm; Rth: 3.2 K/W; RthJA (max): 50 K/W; VDS (max): 25 V; VGS(th) (max): 2 V; VGS(th) (min): 1.2 V; DatasheetVersion: Rev. 1.0; PackageVersion: Mar-13; PackageReference: LG-USON-6-1; PackageDescription: 6-Pin Plastic (Green) Ultra thin Small Outline Non-leaded Package, 3 x 3.4 mm Body; Supplier 1: Mouser; Supplier Part Number 1: N/A; Halogen-free: TRUE; Packing: Reel; RthJC (max): 3.2 K/W; Technology: OPTIMOS; Mounting Technology: Surface Mount; ComponentLink1Description: Manufacturer URL; ComponentLink1URL: http://www.infineon.com/; ComponentLink2Description: Datasheet; ComponentLink2URL: http://www.infineon.com/dgdl/BSN045NE2LS_rev1.pdf?folderId=db3a304313b8b5a60113cee8763b02d7&fileId=db3a30433d68e984013d7ca959855780; ComponentLink3Description: Package Specification; ComponentLink3URL: http://www.infineon.com/dgdl/BSN011NE2LSI_rev1.0.pdf?folderId=db3a304313b8b5a60113cee8763b02d7&fileId=db3a30433d68e984013d7ccf22ee58e4
footprint INF-LG-USON-6-1_V (USON, 6-Leads, Body 3.4x3mm)
pins: 1 SOURCE, 2 GATE, 3 DRAIN, 4 DRAIN, 5 GATE, 6 SOURCE
text: 3, 4; 2, 5; 1, 6

## BSN048N03LS
designator Q?
N-Channel OptiMOS Power-MOSFET, 30 V VDS, 50 A ID, -55 to 150 degC, LG-USON-6-1, Reel, Green; Manufacturer: Infineon; PartNumber: BSN048N03LS; Green: TRUE; ID (max): 50 A; IDpuls (max): 200 A; Polarity: N; Ptot (max): 39 W; QG: 12 nC; RDS (on) (max): 4.8 mOhm; RDS (on) (max) (@4.5V): 6.6 mOhm; Rth: 3.2 K/W; RthJA (max): 50 K/W; VDS (max): 30 V; VGS(th) (max): 2 V; VGS(th) (min): 1.2 V; DatasheetVersion: Rev. 0.2; PackageVersion: Mar-13; PackageReference: LG-USON-6-1; PackageDescription: 6-Pin Plastic (Green) Ultra thin Small Outline Non-leaded Package, 3 x 3.4 mm Body; Supplier 1: Mouser; Supplier Part Number 1: N/A; Halogen-free: TRUE; Packing: Reel; RthJC (max): 3.2 K/W; Technology: OPTIMOS; Mounting Technology: Surface Mount; ComponentLink1Description: Manufacturer URL; ComponentLink1URL: http://www.infineon.com/; ComponentLink2Description: Datasheet; ComponentLink2URL: http://www.infineon.com/dgdl/BSN048N03LS_rev1.pdf?folderId=db3a304313b8b5a60113cee8763b02d7&fileId=db3a30433d68e984013d7cf6d2e25a60; ComponentLink3Description: Package Specification; ComponentLink3URL: http://www.infineon.com/dgdl/BSN011NE2LSI_rev1.0.pdf?folderId=db3a304313b8b5a60113cee8763b02d7&fileId=db3a30433d68e984013d7ccf22ee58e4
footprint INF-LG-USON-6-1_V (USON, 6-Leads, Body 3.4x3mm)
pins: 1 SOURCE, 2 GATE, 3 DRAIN, 4 DRAIN, 5 GATE, 6 SOURCE
text: 3, 4; 2, 5; 1, 6

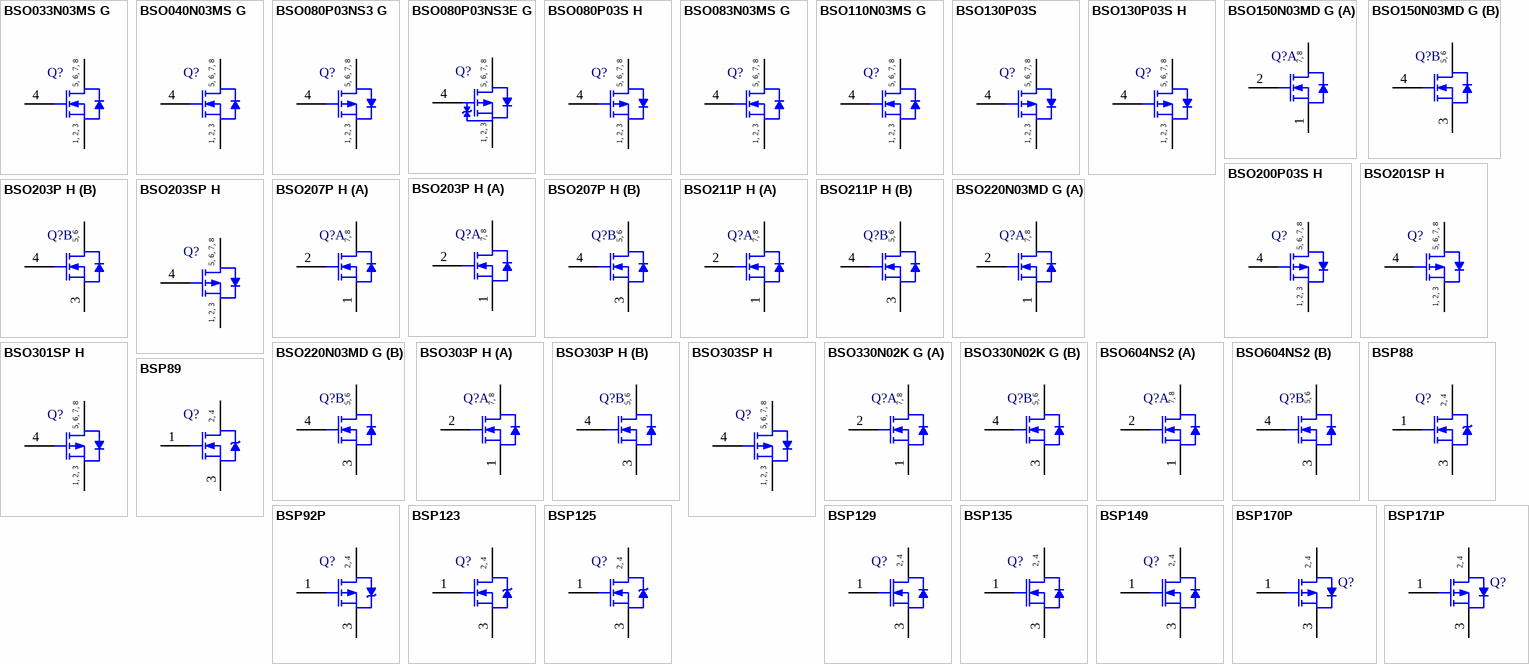
[diagram p5: symbols BSO033N03MS G to BSP171P]

## BSO033N03MS G
designator Q?
N-Channel OptiMOS 3 M-Series Power-MOSFET, 30 V VDS, 22 A ID, -55 to 150 degC, PG-DSO-8-16, Reel, Green; Manufacturer: Infineon; PartNumber: BSO033N03MS G; Green: TRUE; ID (max): 22 A; IDpuls (max): 154 A; Polarity: N; Ptot (max): 2.5 W; QG: 93 nC; RDS (on) (max): 3.3 mOhm; RDS (on) (max) (@4.5V): 3.8 mOhm; Rth: 35 K/W; RthJA (max): 150 K/W; VDS (max): 30 V; VGS(th) (max): 2 V; VGS(th) (min): 1 V; DatasheetVersion: Rev. 1.1; PackageReference: PG-DSO-8-3; PackageDescription: 8-Pin Plastic (Green) Dual Small Outline Package, 4.9 x 3.9 mm Body, 1.27 mm Pitch; Supplier 1: Mouser; Supplier Part Number 1: 726-BSO033N03MSG; Supplier 2: Newark; Supplier Part Number 2: 47W3322; Supplier 3: Farnell; Supplier Part Number 3: 2212862; Supplier 4: Digi-Key; Supplier Part Number 4: BSO033N03MS GINTR-ND; Supplier 5: Digi-Key; Supplier Part Number 5: BSO033N03MS GINCT-ND; Supplier 6: Digi-Key; Supplier Part Number 6: BSO033N03MS GINDKR-ND; Halogen-free: TRUE; Packing: Reel; Mounting Technology: Surface Mount; ComponentLink1Description: Manufacturer URL; ComponentLink1URL: http://www.infineon.com/; ComponentLink2Description: Datasheet; ComponentLink2URL: http://www.infineon.com/dgdl/BSO033N03MS_rev1.1.pdf?folderId=db3a304313d846880113d91d60c500c4&fileId=db3a30431b0626df011b0d47b2e87dc5; ComponentLink3Description: Package Specification; ComponentLink3URL: http://www.infineon.com/cms/packages/SMD_-_Surface_Mounted_Devices/P-PG-DSO/P-PG-DSO-08-03x_-6x_-7x_-8x_-10x_-13x_-15x_-18x_-19x_-20x_-23.html?__locale=en
footprint INF-PG-DSO-8-3_N (SOP, 8-Leads, Body 4.9x3.9mm, Pitch 1.27mm, IPC Medium Density)
footprint INF-PG-DSO-8-3_L (SOP, 8-Leads, Body 4.9x3.9mm, Pitch 1.27mm, IPC High Density)
footprint INF-PG-DSO-8-3_M (SOP, 8-Leads, Body 4.9x3.9mm, Pitch 1.27mm, IPC Low Density)
pins: 1 SOURCE, 2 SOURCE, 3 SOURCE, 4 GATE, 5 DRAIN, 6 DRAIN, 7 DRAIN, 8 DRAIN
text: 5, 6, 7, 8; 1, 2, 3

## BSO040N03MS G
designator Q?
N-Channel OptiMOS 3 M-Series Power-MOSFET, 30 V VDS, 20 A ID, -55 to 150 degC, PG-DSO-8-16, Reel, Green; Manufacturer: Infineon; PartNumber: BSO040N03MS G; Green: TRUE; ID (max): 20 A; IDpuls (max): 140 A; Polarity: N; Ptot (max): 2.5 W; QG: 27 nC; RDS (on) (max): 4 mOhm; RDS (on) (max) (@4.5V): 4.9 mOhm; Rth: 35 K/W; VDS (max): 30 V; VGS(th) (max): 2 V; VGS(th) (min): 1 V; DatasheetVersion: Rev. 1.1; PackageVersion: Mar-07; PackageReference: PG-DSO-8-16; PackageDescription: 8-Pin Plastic (Green) Dual Small Outline Package, 4.9 x 3.9 mm Body, 1.27 mm Pitch; Supplier 1: Mouser; Supplier Part Number 1: 726-BSO040N03MSG; Supplier 2: Digi-Key; Supplier Part Number 2: BSO040N03MS G-ND; Halogen-free: TRUE; Packing: Reel; Mounting Technology: Surface Mount; ComponentLink1Description: Manufacturer URL; ComponentLink1URL: http://www.infineon.com/; ComponentLink2Description: Datasheet; ComponentLink2URL: http://www.infineon.com/dgdl/BSO040N03MS_rev1.1.pdf?folderId=db3a304313d846880113d91d60c500c4&fileId=db3a30431b0626df011b0d4dfc657dd7; ComponentLink3Description: Package Specification; ComponentLink3URL: http://www.infineon.com/dgdl/TLE7259-2GE_DS_rev12.pdf?folderId=db3a3043163797a6011666d32a0c0de1&fileId=db3a3043163797a6011666d4dbb80de2&location=en.Products.Automotive_ICs.Automotive_Transceivers.LIN_Transceivers.DATASHEET.TLE7259-2GE_DS_rev12.pdf
footprint INF-PG-DSO-8-16_N (SOP, 8-Leads, Body 4.9x3.9mm, Pitch 1.27mm, IPC Medium Density)
footprint INF-PG-DSO-8-16_L (SOP, 8-Leads, Body 4.9x3.9mm, Pitch 1.27mm, IPC High Density)
footprint INF-PG-DSO-8-16_M (SOP, 8-Leads, Body 4.9x3.9mm, Pitch 1.27mm, IPC Low Density)
pins: 1 SOURCE, 2 SOURCE, 3 SOURCE, 4 GATE, 5 DRAIN, 6 DRAIN, 7 DRAIN, 8 DRAIN
text: 5, 6, 7, 8; 1, 2, 3

## BSO080P03NS3 G
designator Q?
P-Channel OptiMOS 3 P3-Power-Transistor, -30 V VDS, -14.8 A ID, -55 to 150 degC, PG-DSO-8-3, Reel, Green; Manufacturer: Infineon; PartNumber: BSO080P03NS3 G; Green: TRUE; ID (max): -14.8 A; IDpuls (max): -48 A; Pto t (max): 2.5 W; QG: 61 nC; RDS (on) (max): 8 mOhm; Rth: 110 K/W; VDS (max): -30 V; VGS(th) (max): -1.9 V; VGS(th) (min): -3.1 V; DatasheetVersion: Rev. 2.21; PackageReference: PG-DSO-8-3; PackageDescription: 8-Pin Plastic (Green) Dual Small Outline Package, 4.9 x 3.9 mm Body, 1.27 mm Pitch; Supplier 1: Mouser; Supplier Part Number 1: 726-BSO080P03NS3G; Supplier 2: Digi-Key; Supplier Part Number 2: BSO080P03NS3 GTR-ND; Supplier 3: Digi-Key; Supplier Part Number 3: BSO080P03NS3 GCT-ND; Supplier 4: Digi-Key; Supplier Part Number 4: BSO080P03NS3 GDKR-ND; Halogen-free: TRUE; Packing: Reel; Mounting Technology: Surface Mount; ComponentLink1Description: Manufacturer URL; ComponentLink1URL: http://www.infineon.com/; ComponentLink2Description: Datasheet; ComponentLink2URL: http://www.infineon.com/dgdl/BSO080P03NS3_G_2+21+%282%29.pdf?folderId=db3a304314dca38901154a72e3951a65&fileId=db3a3043284aacd801286d7aee12296a; ComponentLink3Description: Package Specification; ComponentLink3URL: http://www.infineon.com/cms/packages/SMD_-_Surface_Mounted_Devices/P-PG-DSO/P-PG-DSO-08-03x_-6x_-7x_-8x_-10x_-13x_-15x_-18x_-19x_-20x_-23.html?__locale=en
footprint INF-PG-DSO-8-3_N (SOP, 8-Leads, Body 4.9x3.9mm, Pitch 1.27mm, IPC Medium Density)
footprint INF-PG-DSO-8-3_L (SOP, 8-Leads, Body 4.9x3.9mm, Pitch 1.27mm, IPC High Density)
footprint INF-PG-DSO-8-3_M (SOP, 8-Leads, Body 4.9x3.9mm, Pitch 1.27mm, IPC Low Density)
pins: 1 SOURCE, 2 SOURCE, 3 SOURCE, 4 GATE, 5 DRAIN, 6 DRAIN, 7 DRAIN, 8 DRAIN
text: 5, 6, 7, 8; 1, 2, 3

## BSO080P03NS3E G
designator Q?
P-Channel OptiMOS 3 P3-Power-Transistor, -30 V VDS, 14.8 A ID, -55 to 150 degC, PG-DSO-8-3, Reel, Green; Manufacturer: Infineon; PartNumber: BSO080P03NS3E G; Green: TRUE; ID (max): 14.8 A; IDpuls (max): 48 A; Pto t (max): 1.6 W; QG: 61 nC; RDS (on) (max): 8 mOhm; Rth: 110 K/W; VDS (max): -30 V; VGS(th) (max): -1.9 V; VGS(th) (min): -3.1 V; DatasheetVersion: Rev. 2.1; PackageReference: PG-DSO-8-3; PackageDescription: 8-Pin Plastic (Green) Dual Small Outline Package, 4.9 x 3.9 mm Body, 1.27 mm Pitch; Supplier 1: Mouser; Supplier Part Number 1: 726-BSO080P03NS3EG; Supplier 2: Digi-Key; Supplier Part Number 2: BSO080P03NS3E GTR-ND; Supplier 3: Digi-Key; Supplier Part Number 3: BSO080P03NS3E GCT-ND; Supplier 4: Digi-Key; Supplier Part Number 4: BSO080P03NS3E GDKR-ND; Halogen-free: TRUE; Packing: Reel; Mounting Technology: Surface Mount; ComponentLink1Description: Manufacturer URL; ComponentLink1URL: http://www.infineon.com/; ComponentLink2Description: Datasheet; ComponentLink2URL: http://www.infineon.com/dgdl/BSO080P03NS3E_G_2.1.pdf?folderId=db3a304314dca38901154a72e3951a65&fileId=db3a3043284aacd801286d7c81ec296e; ComponentLink3Description: Package Specification; ComponentLink3URL: http://www.infineon.com/cms/packages/SMD_-_Surface_Mounted_Devices/P-PG-DSO/P-PG-DSO-08-03x_-6x_-7x_-8x_-10x_-13x_-15x_-18x_-19x_-20x_-23.html?__locale=en
footprint INF-PG-DSO-8-3_N (SOP, 8-Leads, Body 4.9x3.9mm, Pitch 1.27mm, IPC Medium Density)
footprint INF-PG-DSO-8-3_L (SOP, 8-Leads, Body 4.9x3.9mm, Pitch 1.27mm, IPC High Density)
footprint INF-PG-DSO-8-3_M (SOP, 8-Leads, Body 4.9x3.9mm, Pitch 1.27mm, IPC Low Density)
pins: 1 S, 2 S, 3 S, 4 G, 5 D, 6 D, 7 D, 8 D
text: 5, 6, 7, 8; 1, 2, 3

## BSO080P03S H
designator Q?
P-Channel OptiMOS P Power-Transistor, -30 V VDS, -14.9 A ID, -55 to 150 degC, P-DSO-8-3, Reel, Green; Manufacturer: Infineon; PartNumber: BSO080P03S H; Green: TRUE; ID (max): -14.9 A; IDpuls (max): -60 A; Pto t (max): 2.5 W; QG: -102 nC; RDS (on) (max): 8 mOhm; Rth: 110 K/W; VDS (max): -30 V; VGS(th) (max): -2.2 V; VGS(th) (min): -1 V; DatasheetVersion: Rev. 1.31; PackageReference: P-DSO-8-3; PackageDescription: 8-Pin Plastic Dual Small Outline Package, 4.9 x 3.9 mm Body, 1.27 mm Pitch; Supplier 1: Mouser; Supplier Part Number 1: 726-BSO080P03SH; Supplier 2: Digi-Key; Supplier Part Number 2: BSO080P03S HTR-ND; Supplier 3: Digi-Key; Supplier Part Number 3: BSO080P03S HCT-ND; Supplier 4: Digi-Key; Supplier Part Number 4: BSO080P03S HDKR-ND; Halogen-free: TRUE; Packing: Reel; Mounting Technology: Surface Mount; ComponentLink1Description: Manufacturer URL; ComponentLink1URL: http://www.infineon.com/; ComponentLink2Description: Datasheet; ComponentLink2URL: http://www.infineon.com/dgdl/BSO080P03S_Rev1.31_.pdf?folderId=db3a304314dca38901154a72e3951a65&fileId=db3a3043271faefd0127b3af1f250a4b; ComponentLink3Description: Package Specification; ComponentLink3URL: http://www.infineon.com/cms/packages/SMD_-_Surface_Mounted_Devices/P-PG-DSO/P-PG-DSO-08-03x_-6x_-7x_-8x_-10x_-13x_-15x_-18x_-19x_-20x_-23.html?__locale=en
footprint INF-P-DSO-8-3_N (SOP, 8-Leads, Body 4.9x3.9mm, Pitch 1.27mm, IPC Medium Density)
footprint INF-P-DSO-8-3_L (SOP, 8-Leads, Body 4.9x3.9mm, Pitch 1.27mm, IPC High Density)
footprint INF-P-DSO-8-3_M (SOP, 8-Leads, Body 4.9x3.9mm, Pitch 1.27mm, IPC Low Density)
pins: 1 SOURCE, 2 SOURCE, 3 SOURCE, 4 GATE, 5 DRAIN, 6 DRAIN, 7 DRAIN, 8 DRAIN
text: 5, 6, 7, 8; 1, 2, 3

## BSO083N03MS G
designator Q?
N-Channel OptiMOS 3 M-Series Power-MOSFET, 30 V VDS, 14 A ID, -55 to 150 degC, PG-DSO-8-16, Reel, Green; Manufacturer: Infineon; PartNumber: BSO083N03MS G; Green: TRUE; ID (max): 14 A; IDpuls (max): 98 A; Polarity: N; Ptot (max): 2.5 W; QG: 21 nC; RDS (on) (max): 8.3 mOhm; RDS (on) (max) (@4.5V): 10.5 mOhm; Rth: 35 K/W; RthJA (max): 150 K/W; VDS (max): 30 V; VGS(th) (max): 2 V; VGS(th) (min): 1 V; DatasheetVersion: Rev. 1.1; PackageVersion: Mar-07; PackageReference: PG-DSO-8-16; PackageDescription: 8-Pin Plastic (Green) Dual Small Outline Package, 4.9 x 3.9 mm Body, 1.27 mm Pitch; Supplier 1: Digi-Key; Supplier Part Number 1: BSO083N03MS GINTR-ND; Supplier 2: Digi-Key; Supplier Part Number 2: BSO083N03MS GINCT-ND; Supplier 3: Digi-Key; Supplier Part Number 3: BSO083N03MS GINDKR-ND; Halogen-free: TRUE; Packing: Reel; Mounting Technology: Surface Mount; ComponentLink1Description: Manufacturer URL; ComponentLink1URL: http://www.infineon.com/; ComponentLink2Description: Datasheet; ComponentLink2URL: http://www.infineon.com/dgdl/BSO083N03MS_rev1.1.pdf?folderId=db3a304313d846880113d91d60c500c4&fileId=db3a30431b0626df011b0d64e5db7e1b; ComponentLink3Description: Package Specification; ComponentLink3URL: http://www.infineon.com/dgdl/TLE7259-2GE_DS_rev12.pdf?folderId=db3a3043163797a6011666d32a0c0de1&fileId=db3a3043163797a6011666d4dbb80de2&location=en.Products.Automotive_ICs.Automotive_Transceivers.LIN_Transceivers.DATASHEET.TLE7259-2GE_DS_rev12.pdf
footprint INF-PG-DSO-8-16_N (SOP, 8-Leads, Body 4.9x3.9mm, Pitch 1.27mm, IPC Medium Density)
footprint INF-PG-DSO-8-16_L (SOP, 8-Leads, Body 4.9x3.9mm, Pitch 1.27mm, IPC High Density)
footprint INF-PG-DSO-8-16_M (SOP, 8-Leads, Body 4.9x3.9mm, Pitch 1.27mm, IPC Low Density)
pins: 1 SOURCE, 2 SOURCE, 3 SOURCE, 4 GATE, 5 DRAIN, 6 DRAIN, 7 DRAIN, 8 DRAIN
text: 5, 6, 7, 8; 1, 2, 3

## BSO110N03MS G
designator Q?
N-Channel OptiMOS 3 M-Series Power-MOSFET, 30 V VDS, 12.1 A ID, -55 to 150 degC, PG-DSO-8-16, Reel, Green; Manufacturer: Infineon; PartNumber: BSO110N03MS G; Green: TRUE; ID (max): 12.1 A; IDpuls (max): 85 A; Polarity: N; Ptot (max): 2.5 W; QG: 7.2 nC; RDS (on) (max): 11 mOhm; RDS (on) (max) (@4.5V): 13.9 mOhm; Rth: 35 K/W; RthJA (max): 150 K/W; VDS (max): 30 V; VGS(th) (max): 2 V; VGS(th) (min): 1 V; DatasheetVersion: Rev. 1.1; PackageVersion: Mar-07; PackageReference: PG-DSO-8-16; PackageDescription: 8-Pin Plastic (Green) Dual Small Outline Package, 4.9 x 3.9 mm Body, 1.27 mm Pitch; Supplier 1: Mouser; Supplier Part Number 1: 726-BSO110N03MSG; Supplier 2: Digi-Key; Supplier Part Number 2: BSO110N03MS GINTR-ND; Supplier 3: Digi-Key; Supplier Part Number 3: BSO110N03MS GINCT-ND; Supplier 4: Digi-Key; Supplier Part Number 4: BSO110N03MS GINDKR-ND; Halogen-free: TRUE; Packing: Reel; Mounting Technology: Surface Mount; ComponentLink1Description: Manufacturer URL; ComponentLink1URL: http://www.infineon.com/; ComponentLink2Description: Datasheet; ComponentLink2URL: http://www.infineon.com/dgdl/BSO110N03MS_rev1.1.pdf?folderId=db3a304313d846880113d91d60c500c4&fileId=db3a30431b0626df011b0d7412447e2b; ComponentLink3Description: Package Specification; ComponentLink3URL: http://www.infineon.com/dgdl/TLE7259-2GE_DS_rev12.pdf?folderId=db3a3043163797a6011666d32a0c0de1&fileId=db3a3043163797a6011666d4dbb80de2&location=en.Products.Automotive_ICs.Automotive_Transceivers.LIN_Transceivers.DATASHEET.TLE7259-2GE_DS_rev12.pdf
footprint INF-PG-DSO-8-16_N (SOP, 8-Leads, Body 4.9x3.9mm, Pitch 1.27mm, IPC Medium Density)
footprint INF-PG-DSO-8-16_L (SOP, 8-Leads, Body 4.9x3.9mm, Pitch 1.27mm, IPC High Density)
footprint INF-PG-DSO-8-16_M (SOP, 8-Leads, Body 4.9x3.9mm, Pitch 1.27mm, IPC Low Density)
pins: 1 SOURCE, 2 SOURCE, 3 SOURCE, 4 GATE, 5 DRAIN, 6 DRAIN, 7 DRAIN, 8 DRAIN
text: 5, 6, 7, 8; 1, 2, 3

## BSO130P03S
designator Q?
OptiMOS-P Power-Transistor, -30 V VDS, -11.3 A ID, PG-DSO-8-3, Reel; Manufacturer: Infineon; PartNumber: BSO130P03S; Green: FALSE; ID (max): -11.3 A; Polarity: P; RDS (on) (max): 13 mOhm; VDS (max): -30 V; DatasheetVersion: Rev. 1.1; PackageReference: PG-DSO-8-3; PackageDescription: 8-Pin Plastic (Green) Dual Small Outline Package, 4.9 x 3.9 mm Body, 1.27 mm Pitch; Supplier 1: Digi-Key; Supplier Part Number 1: BSO130P03S-ND; Halogen-free: FALSE; Packing: Reel; Mounting Technology: Surface Mount; ComponentLink1Description: Manufacturer URL; ComponentLink1URL: http://www.infineon.com/; ComponentLink2Description: Datasheet; ComponentLink2URL: http://www.infineon.com/dgdl/BSO130P03S_Rev1.1.pdf?folderId=db3a304412b407950112b42aeb4c4422&fileId=db3a304412b407950112b42aebbc4423; ComponentLink3Description: Package Specification; ComponentLink3URL: http://www.infineon.com/cms/packages/SMD_-_Surface_Mounted_Devices/P-PG-DSO/P-PG-DSO-08-03x_-6x_-7x_-8x_-10x_-13x_-15x_-18x_-19x_-20x_-23.html?__locale=en
footprint INF-PG-DSO-8-3_N (SOP, 8-Leads, Body 4.9x3.9mm, Pitch 1.27mm, IPC Medium Density)
footprint INF-PG-DSO-8-3_L (SOP, 8-Leads, Body 4.9x3.9mm, Pitch 1.27mm, IPC High Density)
footprint INF-PG-DSO-8-3_M (SOP, 8-Leads, Body 4.9x3.9mm, Pitch 1.27mm, IPC Low Density)
pins: 1 SOURCE, 2 SOURCE, 3 SOURCE, 4 GATE, 5 DRAIN, 6 DRAIN, 7 DRAIN, 8 DRAIN
text: 5, 6, 7, 8; 1, 2, 3